# EAGLE library part PMX42_G12864F-24-OC3Y (library 52101-101-REV-A)
OLED 128 x 64 DISPLAY FEMA Electronics
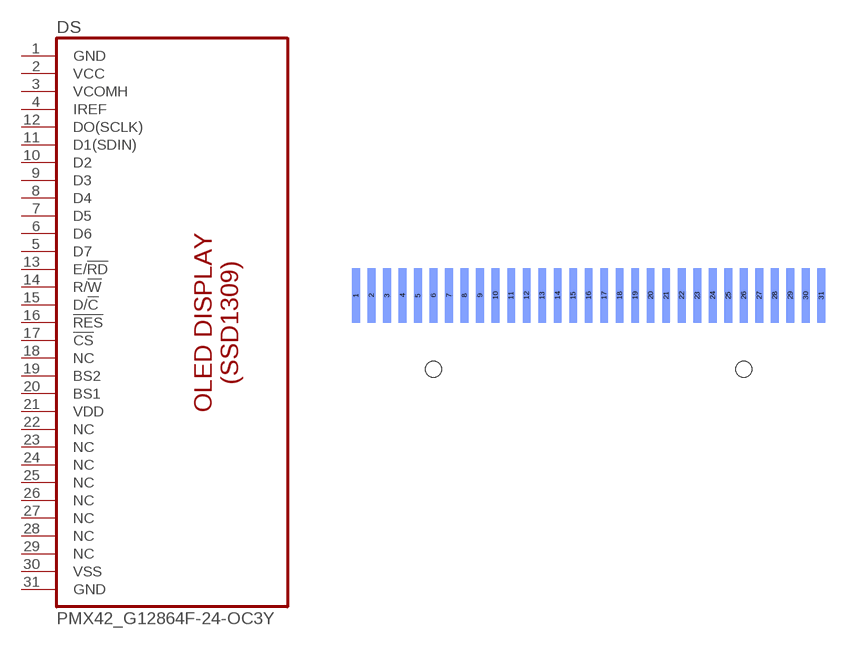
[diagram p1: symbol with the pads of PMX42_G12864F-24-OC3Y_BOT; footprint PMX42_G12864F-24-OC3Y_BOT]

Designator prefix DS

## PMX42_G12864F-24-OC3Y_BOT  [PMX42_G12864F-24-OC3Y_BOT]
1  GND  pwr
2  VCC  pwr
3  VCOMH  out
4  IREF  in
5  D7  in
6  D6  in
7  D5  in
8  D4  in
9  D3  in
10  D2  in
11  D1(SDIN)  in
12  DO(SCLK)  in
13  E/!RD!  in
14  R/!W!  in
15  D/!C!  in
16  !RES!  in
17  !CS!  in
18  NC  nc
19  BS2  in
20  BS1  in
21  VDD  pwr
22  NC  nc
23  NC  nc
24  NC  nc
25  NC  nc
26  NC  nc
27  NC  nc
28  NC  nc
29  NC  nc
30  VSS  pwr
31  GND  pwr

## Footprint PMX42_G12864F-24-OC3Y_BOT (pad centres in mm)
OLED FLEX CABLE PADS (PCB BOTTOM SIDE)
smd 0.5 x 3.5 bottom: 1 -15,0.25; 2 -14,0.25; 3 -13,0.25; 4 -12,0.25; 5 -11,0.25; 6 -10,0.25; 7 -9,0.25; 8 -8,0.25; 9 -7,0.25; 10 -6,0.25; 11 -5,0.25; 12 -4,0.25; 13 -3,0.25; 14 -2,0.25; 15 -1,0.25; 16 0,0.25; 17 1,0.25; 18 2,0.25; 19 3,0.25; 20 4,0.25; 21 5,0.25; 22 6,0.25; 23 7,0.25; 24 8,0.25; 25 9,0.25; 26 10,0.25; 27 11,0.25; 28 12,0.25; 29 13,0.25; 30 14,0.25; 31 15,0.25
hole 1.016 at 10,-4.5
hole 1.016 at -10,-4.5